# Altium schematic symbol library EMRT MAIN CONTROLLER.SchLib: 42 symbols
Pins are listed as number, name and electrical type; pins without a type are passive.

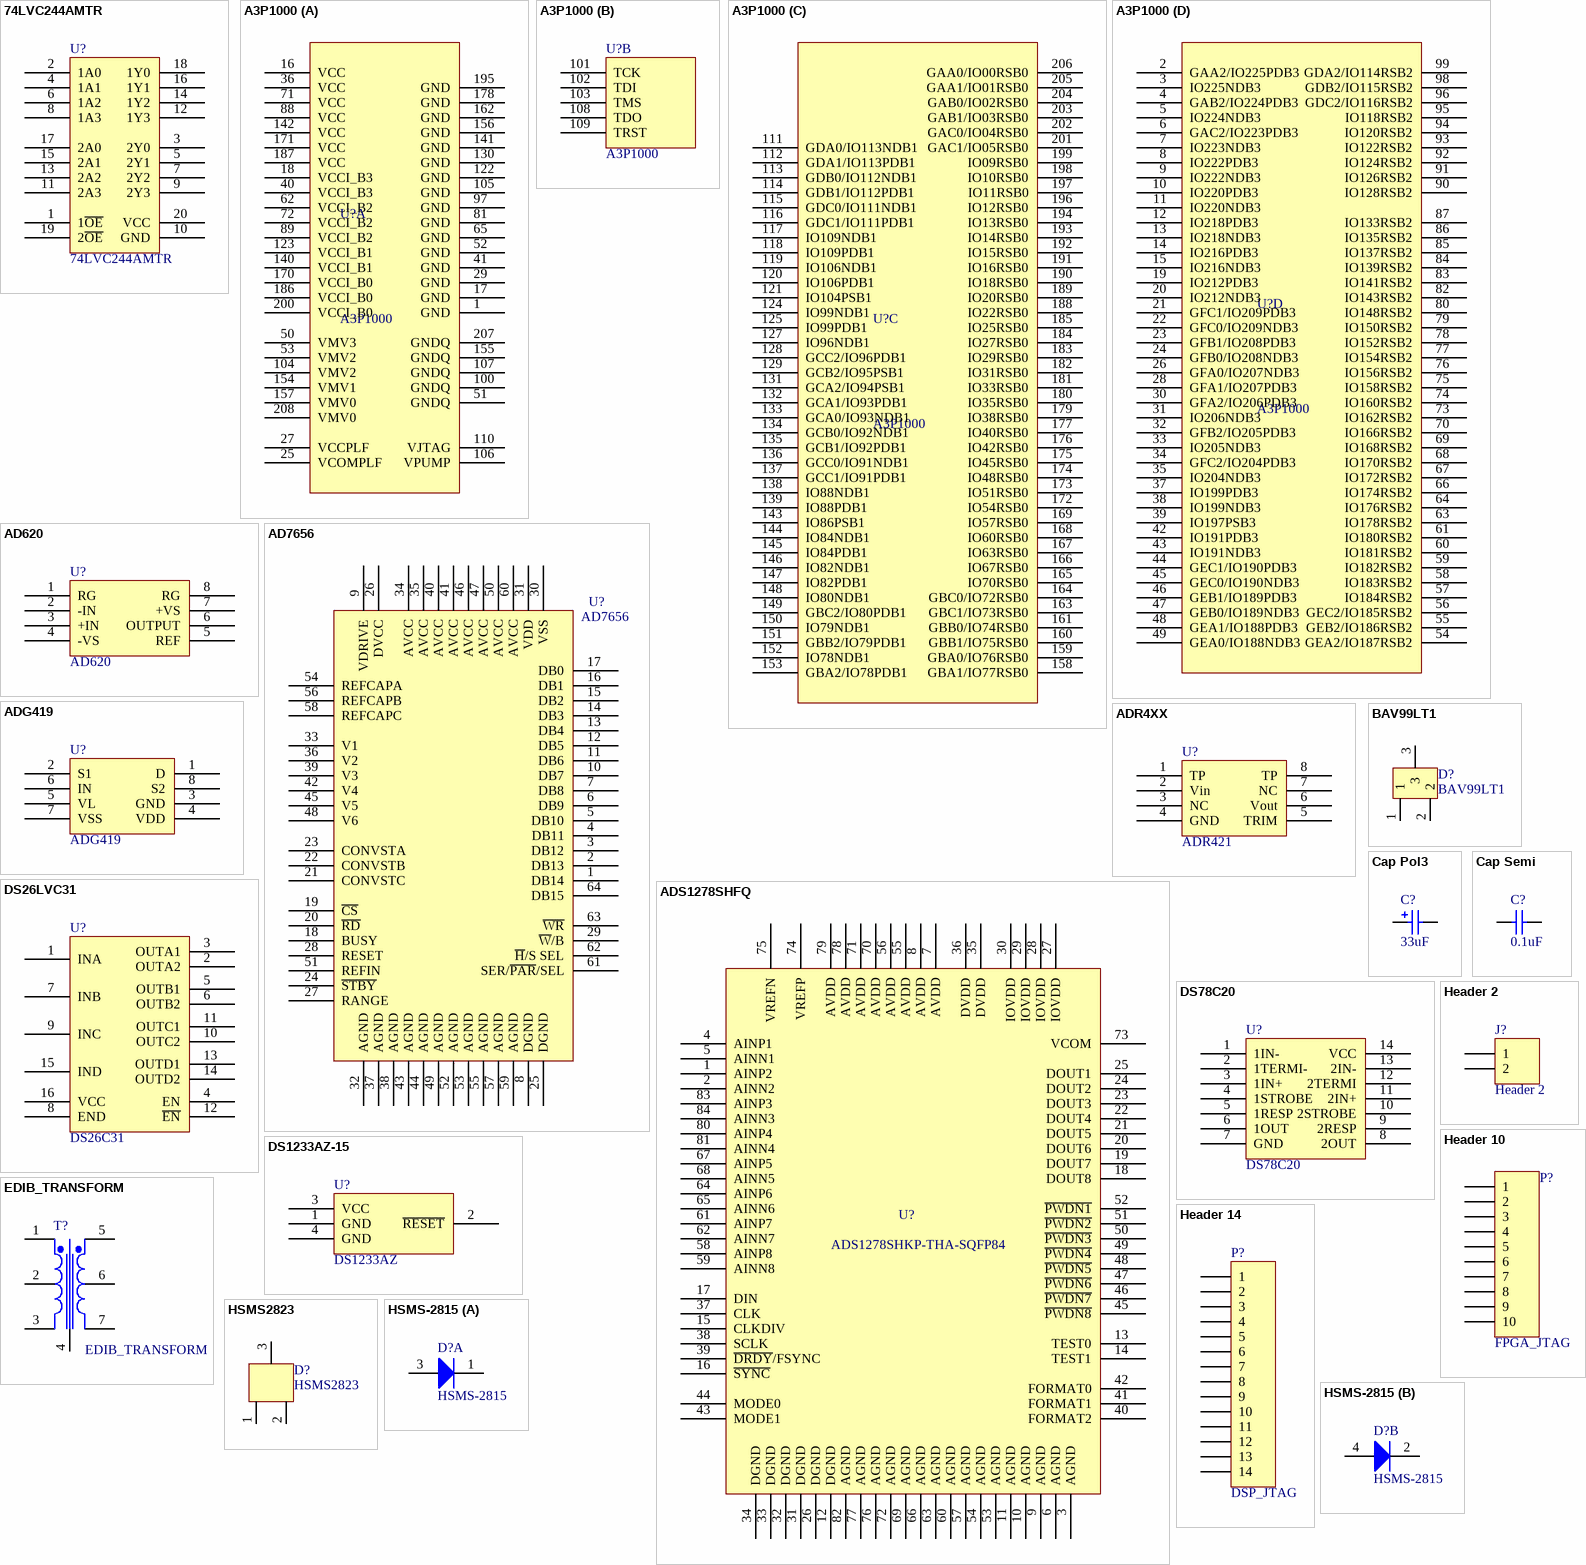
[diagram p0: symbols 74LVC244AMTR to HSMS-2815]

## 74LVC244AMTR
designator U?
footprint SOP20
pins: 1 1~{OE}, 2 1A0, 3 2Y0, 4 1A1, 5 2Y1, 6 1A2, 7 2Y2, 8 1A3, 9 2Y3, 10 GND, 11 2A3, 12 1Y3, 13 2A2, 14 1Y2, 15 2A1, 16 1Y1, 17 2A0, 18 1Y0, 19 2~{OE}, 20 VCC

## A3P1000
designator U?
footprint PQFP208
part A pins: 1 GND, 16 VCC, 17 GND, 18 VCCI_B3, 25 VCOMPLF, 27 VCCPLF, 29 GND, 36 VCC, 40 VCCI_B3, 41 GND, 50 VMV3, 51 GNDQ, 52 GND, 53 VMV2, 62 VCCI_B2, 65 GND, 71 VCC, 72 VCCI_B2, 81 GND, 88 VCC, 89 VCCI_B2, 97 GND, 100 GNDQ, 104 VMV2, 105 GND, 106 VPUMP, 107 GNDQ, 110 VJTAG, 122 GND, 123 VCCI_B1, 130 GND, 140 VCCI_B1, 141 GND, 142 VCC, 154 VMV1, 155 GNDQ, 156 GND, 157 VMV0, 162 GND, 170 VCCI_B0, 171 VCC, 178 GND, 186 VCCI_B0, 187 VCC, 195 GND, 200 VCCI_B0, 207 GNDQ, 208 VMV0
part B pins: 101 TCK, 102 TDI, 103 TMS, 108 TDO, 109 TRST
part C pins: 111 GDA0/IO113NDB1, 112 GDA1/IO113PDB1, 113 GDB0/IO112NDB1, 114 GDB1/IO112PDB1, 115 GDC0/IO111NDB1, 116 GDC1/IO111PDB1, 117 IO109NDB1, 118 IO109PDB1, 119 IO106NDB1, 120 IO106PDB1, 121 IO104PSB1, 124 IO99NDB1, 125 IO99PDB1, 127 IO96NDB1, 128 GCC2/IO96PDB1, 129 GCB2/IO95PSB1, 131 GCA2/IO94PSB1, 132 GCA1/IO93PDB1, 133 GCA0/IO93NDB1, 134 GCB0/IO92NDB1, 135 GCB1/IO92PDB1, 136 GCC0/IO91NDB1, 137 GCC1/IO91PDB1, 138 IO88NDB1, 139 IO88PDB1, 143 IO86PSB1, 144 IO84NDB1, 145 IO84PDB1, 146 IO82NDB1, 147 IO82PDB1, 148 IO80NDB1, 149 GBC2/IO80PDB1, 150 IO79NDB1, 151 GBB2/IO79PDB1, 152 IO78NDB1, 153 GBA2/IO78PDB1, 158 GBA1/IO77RSB0, 159 GBA0/IO76RSB0, 160 GBB1/IO75RSB0, 161 GBB0/IO74RSB0, 163 GBC1/IO73RSB0, 164 GBC0/IO72RSB0, 165 IO70RSB0, 166 IO67RSB0, 167 IO63RSB0, 168 IO60RSB0, 169 IO57RSB0, 172 IO54RSB0, 173 IO51RSB0, 174 IO48RSB0, 175 IO45RSB0, 176 IO42RSB0, 177 IO40RSB0, 179 IO38RSB0, 180 IO35RSB0, 181 IO33RSB0, 182 IO31RSB0, 183 IO29RSB0, 184 IO27RSB0, 185 IO25RSB0, 188 IO22RSB0, 189 IO20RSB0, 190 IO18RSB0, 191 IO16RSB0, 192 IO15RSB0, 193 IO14RSB0, 194 IO13RSB0, 196 IO12RSB0, 197 IO11RSB0, 198 IO10RSB0, 199 IO09RSB0, 201 GAC1/IO05RSB0, 202 GAC0/IO04RSB0, 203 GAB1/IO03RSB0, 204 GAB0/IO02RSB0, 205 GAA1/IO01RSB0, 206 GAA0/IO00RSB0
part D pins: 2 GAA2/IO225PDB3, 3 IO225NDB3, 4 GAB2/IO224PDB3, 5 IO224NDB3, 6 GAC2/IO223PDB3, 7 IO223NDB3, 8 IO222PDB3, 9 IO222NDB3, 10 IO220PDB3, 11 IO220NDB3, 12 IO218PDB3, 13 IO218NDB3, 14 IO216PDB3, 15 IO216NDB3, 19 IO212PDB3, 20 IO212NDB3, 21 GFC1/IO209PDB3, 22 GFC0/IO209NDB3, 23 GFB1/IO208PDB3, 24 GFB0/IO208NDB3, 26 GFA0/IO207NDB3, 28 GFA1/IO207PDB3, 30 GFA2/IO206PDB3, 31 IO206NDB3, 32 GFB2/IO205PDB3, 33 IO205NDB3, 34 GFC2/IO204PDB3, 35 IO204NDB3, 37 IO199PDB3, 38 IO199NDB3, 39 IO197PSB3, 42 IO191PDB3, 43 IO191NDB3, 44 GEC1/IO190PDB3, 45 GEC0/IO190NDB3, 46 GEB1/IO189PDB3, 47 GEB0/IO189NDB3, 48 GEA1/IO188PDB3, 49 GEA0/IO188NDB3, 54 GEA2/IO187RSB2, 55 GEB2/IO186RSB2, 56 GEC2/IO185RSB2, 57 IO184RSB2, 58 IO183RSB2, 59 IO182RSB2, 60 IO181RSB2, 61 IO180RSB2, 63 IO178RSB2, 64 IO176RSB2, 66 IO174RSB2, 67 IO172RSB2, 68 IO170RSB2, 69 IO168RSB2, 70 IO166RSB2, 73 IO162RSB2, 74 IO160RSB2, 75 IO158RSB2, 76 IO156RSB2, 77 IO154RSB2, 78 IO152RSB2, 79 IO150RSB2, 80 IO148RSB2, 82 IO143RSB2, 83 IO141RSB2, 84 IO139RSB2, 85 IO137RSB2, 86 IO135RSB2, 87 IO133RSB2, 90 IO128RSB2, 91 IO126RSB2, 92 IO124RSB2, 93 IO122RSB2, 94 IO120RSB2, 95 IO118RSB2, 96 GDC2/IO116RSB2, 98 GDB2/IO115RSB2, 99 GDA2/IO114RSB2

## AD620
designator U?
footprint DIP8
pins: 1 RG, 2 -IN, 3 +IN, 4 -VS, 5 REF, 6 OUTPUT, 7 +VS, 8 RG

## AD7656
designator U?
footprint LQFP-64
pins: 1 DB14, 2 DB13, 3 DB12, 4 DB11, 5 DB10, 6 DB9, 7 DB8, 8 DGND, 9 VDRIVE, 10 DB7, 11 DB6, 12 DB5, 13 DB4, 14 DB3, 15 DB2, 16 DB1, 17 DB0, 18 BUSY, 19 ~{CS}, 20 ~{RD}, 21 CONVSTC, 22 CONVSTB, 23 CONVSTA, 24 ~{STBY}, 25 DGND, 26 DVCC, 27 RANGE, 28 RESET, 29 ~{W}/B, 30 VSS, 31 VDD, 32 AGND, 33 V1, 34 AVCC, 35 AVCC, 36 V2, 37 AGND, 38 AGND, 39 V3, 40 AVCC, 41 AVCC, 42 V4, 43 AGND, 44 AGND, 45 V5, 46 AVCC, 47 AVCC, 48 V6, 49 AGND, 50 AVCC, 51 REFIN, 52 AGND, 53 AGND, 54 REFCAPA, 55 AGND, 56 REFCAPB, 57 AGND, 58 REFCAPC, 59 AGND, 60 AVCC, 61 SER/~{PAR}/SEL, 62 ~{H}/S SEL, 63 ~{WR}, 64 DB15

## ADG419
designator U?
footprint DIP8
pins: 1 D, 2 S1, 3 GND, 4 VDD, 5 VL, 6 IN, 7 VSS, 8 S2

## ADR4XX
designator U?, comment ADR421
footprint SO-8
pins: 1 TP, 2 Vin, 3 NC, 4 GND, 5 TRIM, 6 Vout, 7 NC, 8 TP

## ADS1278SHFQ
designator U?, comment ADS1278SHKP-THA-SQFP84
footprint HB-CQFP_84q1933×1933×280_p50 - duplicate (SQFP, 84-Leads, Body 13.81x13.81mm, Pitch 0.50mm, Thermal Pad 7.04x7.04mm, IPC Medium Density)
pins: 1 AINP2, 2 AINN2, 3 AGND, 4 AINP1, 5 AINN1, 6 AGND, 7 AVDD, 8 AVDD, 9 AGND, 10 AGND, 11 AGND, 12 DGND, 13 TEST0, 14 TEST1, 15 CLKDIV, 16 ~{SYNC}, 17 DIN, 18 DOUT8, 19 DOUT7, 20 DOUT6, 21 DOUT5, 22 DOUT4, 23 DOUT3, 24 DOUT2, 25 DOUT1, 26 DGND, 27 IOVDD, 28 IOVDD, 29 IOVDD, 30 IOVDD, 31 DGND, 32 DGND, 33 DGND, 34 DGND, 35 DVDD, 36 DVDD, 37 CLK, 38 SCLK, 39 ~{DRDY}/FSYNC, 40 FORMAT2, 41 FORMAT1, 42 FORMAT0, 43 MODE1, 44 MODE0, 45 ~{PWDN8}, 46 ~{PWDN7}, 47 ~{PWDN6}, 48 ~{PWDN5}, 49 ~{PWDN4}, 50 ~{PWDN3}, 51 ~{PWDN2}, 52 ~{PWDN1}, 53 AGND, 54 AGND, 55 AVDD, 56 AVDD, 57 AGND, 58 AINP8, 59 AINN8, 60 AGND, 61 AINP7, 62 AINN7, 63 AGND, 64 AINP6, 65 AINN6, 66 AGND, 67 AINP5, 68 AINN5, 69 AGND, 70 AVDD, 71 AVDD, 72 AGND, 73 VCOM, 74 VREFP, 75 VREFN, 76 AGND, 77 AGND, 78 AVDD, 79 AVDD, 80 AINP4, 81 AINN4, 82 AGND, 83 AINP3, 84 AINN3

## BAV99LT1
designator D?
footprint SOT23-3N (SOT23, 3-Leads, Body 2.9x1.3mm, Pitch 0.95mm, Lead Span 2.5mm, IPC Medium Density)
pins: 1, 2, 3

## Cap Pol3
designator C?  value 33uF  (hidden comment: Cap Pol3)
Polarized Capacitor (Surface Mount); Manufacturer: Generic Components; Class: Passive; Published: 08/06/2000; Publisher: Altium Hobart Technology Centre; SubClass: Capacitor; Comment_1: Cap Pol3
simulation model CAP (Capacitor)
signal-integrity model Cap Pol
footprint 1206
pins: 1, 2

## Cap Semi
designator C?  value 0.1uF  (hidden comment: Cap Semi)
Capacitor (Semiconductor SIM Model); Manufacturer: Generic Components; Class: Passive; Published: 08/06/2000; Publisher: Altium Hobart Technology Centre; SubClass: Capacitor
simulation model CAP (Semiconductor Capacitor)
signal-integrity model Cap Semi
footprint 0805
pins: 1, 2

## DS26LVC31
designator U?, comment DS26C31
footprint DIP16
pins: 1 INA, 2 OUTA2, 3 OUTA1, 4 EN, 5 OUTB1, 6 OUTB2, 7 INB, 8 END, 9 INC, 10 OUTC2, 11 OUTC1, 12 ~{EN}, 13 OUTD1, 14 OUTD2, 15 IND, 16 VCC

## DS78C20
designator U?
footprint DIP14
pins: 1 1IN-, 2 1TERMI-, 3 1IN+, 4 1STROBE, 5 1RESP, 6 1OUT, 7 GND, 8 2OUT, 9 2RESP, 10 2STROBE, 11 2IN+, 12 2TERMI, 13 2IN-, 14 VCC

## DS1233AZ-15
designator U?, comment DS1233AZ
footprint SOT-223 (SOT-223/SC-73; 4 Leads; Body 6.7 x 7.3 mm, inc. leads (LxW max))
pins: 1 GND, 2 ~{RESET}, 3 VCC, 4 GND

## EDIB_TRANSFORM
designator T?
footprint TRANSFORM
pins: 1 Pri+, 2, 3 Pri-, 4, 5 Sec-, 6 SecCT, 7 Sec+

## Header 2
designator J?
Header, 2-Pin; LatestRevisionDate: 17-Jul-2002; LatestRevisionNote: Re-released for DXP Platform.; Publisher: Altium Limited
footprint HDR1X2 (Connector; Header; 2 Position)
signal-integrity model Connector
pins: 1, 2

## Header 10
designator P?, comment FPGA_JTAG
Header, 10-Pin; LatestRevisionDate: 17-Jul-2002; LatestRevisionNote: Re-released for DXP Platform.; Publisher: Altium Limited
footprint HDR2X5 (Connector; Header; 5x2 Position)
signal-integrity model Connector
pins: 1, 2, 3, 4, 5, 6, 7, 8, 9, 10

## Header 14
designator P?, comment DSP_JTAG
Header, 14-Pin; LatestRevisionDate: 17-Jul-2002; LatestRevisionNote: Re-released for DXP Platform.; Publisher: Altium Limited
footprint HDR2X7
signal-integrity model Connector
pins: 1, 2, 3, 4, 5, 6, 7, 8, 9, 10, 11, 12, 13, 14

## HSMS2823
designator D?
footprint SOT-23
pins: 1, 2, 3

## HSMS-2815
designator D?
footprint HMIS_2815_SOT143
part A pins: 1, 3
part B pins: 2, 4

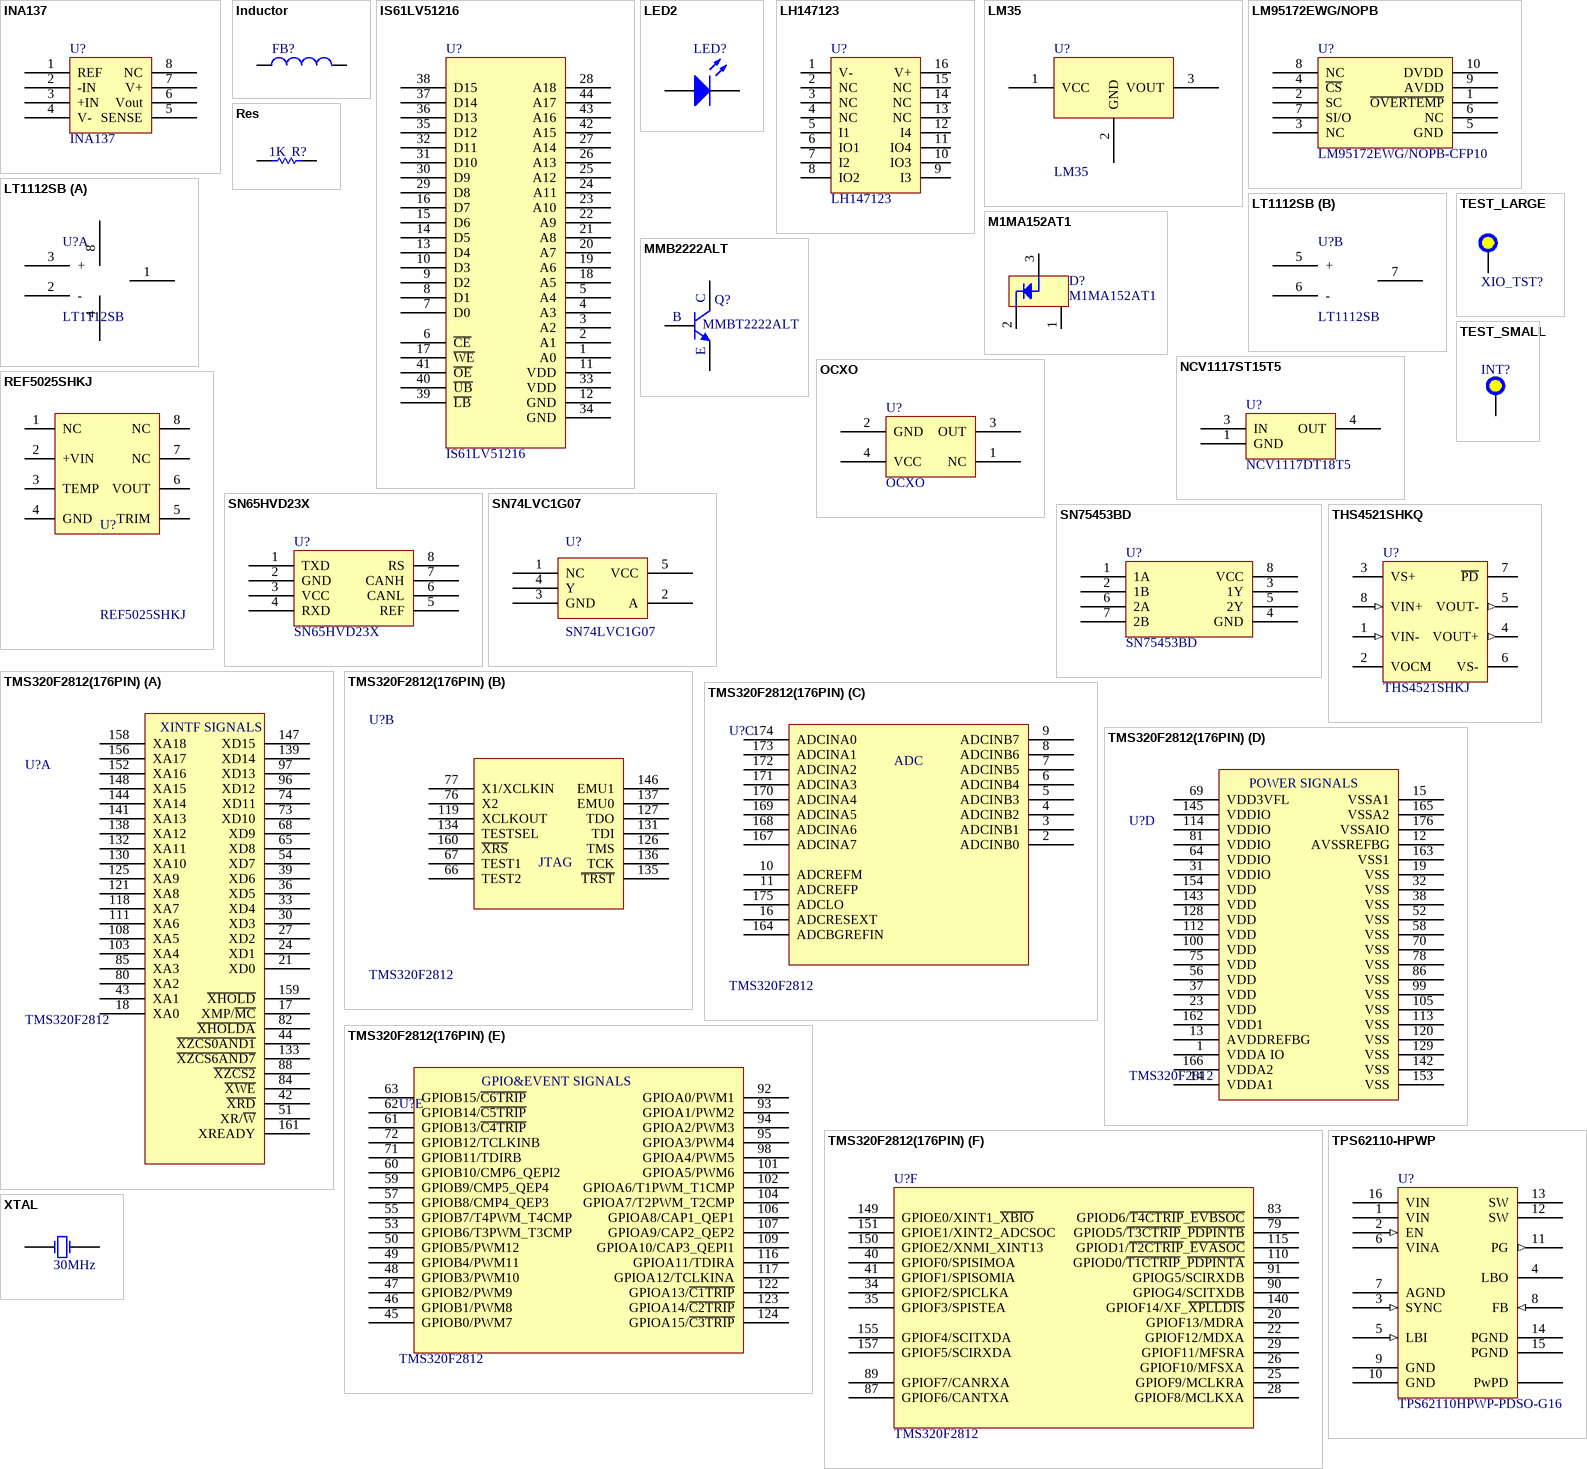
[diagram p1: symbols INA137 to XTAL]

## INA137
designator U?
footprint SO-8
pins: 1 REF, 2 -IN, 3 +IN, 4 V-, 5 SENSE, 6 Vout, 7 V+, 8 NC

## Inductor
designator FB?  (value not drawn)
Manufacturer: Generic Components; Class: Passive; Published: 08/06/2000; Publisher: Altium Hobart Technology Centre; SubClass: Inductor
simulation model INDUCTOR (Inductor)
signal-integrity model Inductor
footprint AXIAL0.5
pins: 1, 2

## IS61LV51216
designator U?
footprint TSOP44
pins: 1 A0, 2 A1, 3 A2, 4 A3, 5 A4, 6 ~{CE}, 7 D0, 8 D1, 9 D2, 10 D3, 11 VDD, 12 GND, 13 D4, 14 D5, 15 D6, 16 D7, 17 ~{WE}, 18 A5, 19 A6, 20 A7, 21 A8, 22 A9, 23 A10, 24 A11, 25 A12, 26 A13, 27 A14, 28 A18, 29 D8, 30 D9, 31 D10, 32 D11, 33 VDD, 34 GND, 35 D12, 36 D13, 37 D14, 38 D15, 39 ~{LB}, 40 ~{UB}, 41 ~{OE}, 42 A15, 43 A16, 44 A17

## LED2
designator LED?
Typical RED, GREEN, YELLOW, AMBER GaAs LED; Published: 8-Jun-2000; LatestRevisionDate: 17-Jul-2002; LatestRevisionNote: Re-released for DXP Platform.; PackageDocument: Feb-2002; PackageReference: 3.2X1.6X1.1; Publisher: Altium Limited
footprint LED0805
simulation model LED2 (Diode)
pins: 1 A, 2 K

## LH147123
designator U?
Part Number: Y20033461; parent: 13; 描述: 青岛智腾;LH147123;210℃;DIP 16PINS;核磁定制; 安装形式: THT; 引脚数目: 16; 产品外形尺寸<长>: 21.6mm; 产品外形尺寸<宽>: 15mm; 产品外形尺寸<高>: 3.68mm; 主要参数: 210℃恒流源模块; id: wt.part.WTPartMaster:10856501; state: APPROVED; folder: /Default/电源及电源管理/LH147123; 制造商型号: LH147123; HelpURL: \\10.185.226.160\altium_center_db\DATASHEET\lh147123.pdf; Library Path: LH147123.SchLib; Library Ref: LH147123; pname: LH147123
footprint DIP16 - LH147123
pins: 1 V-, 2 NC, 3 NC, 4 NC, 5 I1, 6 IO1, 7 I2, 8 IO2, 9 I3, 10 IO3, 11 IO4, 12 I4, 13 NC, 14 NC, 15 NC, 16 V+

## LM35
designator U?
footprint TO-46
pins: 1 VCC, 2 GND, 3 VOUT

## LM95172EWG/NOPB
designator U?, comment LM95172EWG/NOPB-CFP10
pins: 1 ~{OVERTEMP}, 2 SC, 3 NC, 4 ~{CS}, 5 GND, 6 NC, 7 SI/O, 8 NC, 9 AVDD (power), 10 DVDD (power)

## LT1112SB
designator U?
footprint SO-8
part A pins: 1, 2 -, 3 +, 4, 8
part B pins: 5 +, 6 -, 7

## M1MA152AT1
designator D?
footprint SC-59
pins: 1, 2, 3

## MMB2222ALT
designator Q?, comment MMBT2222ALT
footprint SOT-23
pins: 1 B, 2 E, 3 C

## NCV1117ST15T5
designator U?, comment NCV1117DT18T5
footprint NCV_NCP1117
pins: 1 GND, 3 IN, 4 OUT

## OCXO
designator U?
footprint OCXO
pins: 1 NC, 2 GND, 3 OUT, 4 VCC

## REF5025SHKJ
designator U?
footprint PDSO_8q600×490×175_p127
pins: 1 NC, 2 +VIN, 3 TEMP, 4 GND, 5 TRIM, 6 VOUT, 7 NC, 8 NC

## Res
designator R?  value 1K  (hidden comment: Res)
Semiconductor Resistor; Manufacturer: Generic Components; Class: Passive; Published: 08/06/2000; Publisher: Altium Hobart Technology Centre; SubClass: Resistor
simulation model RES (Semiconductor Resistor)
signal-integrity model Res Semi
footprint RESS0805
pins: 1, 2

## SN65HVD23X
designator U?
footprint SO-8
pins: 1 TXD, 2 GND, 3 VCC, 4 RXD, 5 REF, 6 CANL, 7 CANH, 8 RS

## SN74LVC1G07
designator U?
footprint DBVR-5
pins: 1 NC, 2 A, 3 GND, 4 Y, 5 VCC

## SN75453BD
designator U?
footprint DIP8
pins: 1 1A, 2 1B, 3 1Y, 4 GND, 5 2Y, 6 2A, 7 2B, 8 VCC

## TEST_LARGE
designator XIO_TST?, comment TST_LARGE  (value not drawn)
footprint test_large
pins: 1

## TEST_SMALL
designator INT?  (value not drawn)
footprint test_small
pins: 1

## THS4521SHKQ
designator U?, comment THS4521SHKJ
Part Number: Y20033402; parent: 13; 制造商型号: THS4521SHKQ; 描述: TI;THS4521SHKQ;210℃;CDFP 8PINS; 安装形式: SMT; 引脚数目: 8; 产品外形尺寸<长>: 11.08mm; 产品外形尺寸<宽>: 7.15mm; 产品外形尺寸<高>: 2.8mm; 主要参数: 高温、极低功耗、负轨输入、轨至轨输出、差动放大器; id: wt.part.WTPartMaster:10348764; state: APPROVED; folder: /Default/模拟IC/THS4521SHKQ; 分类: 模拟IC; HelpURL: \\10.185.226.160\altium_center_db\DATASHEET\TI THS4521-HT.pdf; Library Path: THS4521S.SchLib; Library Ref: THS4521SHKQ; Footprint Path: TI THS4521SHKQ.PcbLib; Footprint Ref: PDSO_8q1098×690×280_p127; pname: THS4521SHKQ
footprint THS4521HKJ
pins: 1 VIN- (in), 2 VOCM, 3 VS+, 4 VOUT+ (out), 5 VOUT- (out), 6 VS-, 7 ~{PD}, 8 VIN+ (in)

## TMS320F2812(176PIN)
designator U?, comment TMS320F2812
footprint QFP176
part A pins: 17 XMP/~{MC}, 18 XA0, 21 XD0, 24 XD1, 27 XD2, 30 XD3, 33 XD4, 36 XD5, 39 XD6, 42 ~{XRD}, 43 XA1, 44 ~{XZCS0AND1}, 51 XR/~{W}, 54 XD7, 65 XD8, 68 XD9, 73 XD10, 74 XD11, 80 XA2, 82 ~{XHOLDA}, 84 ~{XWE}, 85 XA3, 88 ~{XZCS2}, 96 XD12, 97 XD13, 103 XA4, 108 XA5, 111 XA6, 118 XA7, 121 XA8, 125 XA9, 130 XA10, 132 XA11, 133 ~{XZCS6AND7}, 138 XA12, 139 XD14, 141 XA13, 144 XA14, 147 XD15, 148 XA15, 152 XA16, 156 XA17, 158 XA18, 159 ~{XHOLD}, 161 XREADY
part B pins: 66 TEST2, 67 TEST1, 76 X2, 77 X1/XCLKIN, 119 XCLKOUT, 126 TMS, 127 TDO, 131 TDI, 134 TESTSEL, 135 ~{TRST}, 136 TCK, 137 EMU0, 146 EMU1, 160 ~{XRS}
part C pins: 2 ADCINB0, 3 ADCINB1, 4 ADCINB2, 5 ADCINB3, 6 ADCINB4, 7 ADCINB5, 8 ADCINB6, 9 ADCINB7, 10 ADCREFM, 11 ADCREFP, 16 ADCRESEXT, 164 ADCBGREFIN, 167 ADCINA7, 168 ADCINA6, 169 ADCINA5, 170 ADCINA4, 171 ADCINA3, 172 ADCINA2, 173 ADCINA1, 174 ADCINA0, 175 ADCLO
part D pins: 1 VDDA IO (power), 12 AVSSREFBG, 13 AVDDREFBG, 14 VDDA1, 15 VSSA1, 19 VSS, 23 VDD, 31 VDDIO, 32 VSS, 37 VDD, 38 VSS, 52 VSS, 56 VDD, 58 VSS, 64 VDDIO, 69 VDD3VFL, 70 VSS, 75 VDD, 78 VSS, 81 VDDIO, 86 VSS, 99 VSS, 100 VDD, 105 VSS, 112 VDD, 113 VSS, 114 VDDIO, 120 VSS, 128 VDD, 129 VSS, 142 VSS, 143 VDD, 145 VDDIO, 153 VSS, 154 VDD, 162 VDD1, 163 VSS1, 165 VSSA2, 166 VDDA2, 176 VSSAIO
part E pins: 45 GPIOB0/PWM7, 46 GPIOB1/PWM8, 47 GPIOB2/PWM9, 48 GPIOB3/PWM10, 49 GPIOB4/PWM11, 50 GPIOB5/PWM12, 53 GPIOB6/T3PWM_T3CMP, 55 GPIOB7/T4PWM_T4CMP, 57 GPIOB8/CMP4_QEP3, 59 GPIOB9/CMP5_QEP4, 60 GPIOB10/CMP6_QEPI2, 61 GPIOB13/~{C4TRIP}, 62 GPIOB14/~{C5TRIP}, 63 GPIOB15/~{C6TRIP}, 71 GPIOB11/TDIRB, 72 GPIOB12/TCLKINB, 92 GPIOA0/PWM1, 93 GPIOA1/PWM2, 94 GPIOA2/PWM3, 95 GPIOA3/PWM4, 98 GPIOA4/PWM5, 101 GPIOA5/PWM6, 102 GPIOA6/T1PWM_T1CMP, 104 GPIOA7/T2PWM_T2CMP, 106 GPIOA8/CAP1_QEP1, 107 GPIOA9/CAP2_QEP2, 109 GPIOA10/CAP3_QEPI1, 116 GPIOA11/TDIRA, 117 GPIOA12/TCLKINA, 122 GPIOA13/~{C1TRIP}, 123 GPIOA14/~{C2TRIP}, 124 GPIOA15/~{C3TRIP}
part F pins: 20 GPIOF13/MDRA, 22 GPIOF12/MDXA, 25 GPIOF9/MCLKRA, 26 GPIOF10/MFSXA, 28 GPIOF8/MCLKXA, 29 GPIOF11/MFSRA, 34 GPIOF2/SPICLKA, 35 GPIOF3/SPISTEA, 40 GPIOF0/SPISIMOA, 41 GPIOF1/SPISOMIA, 79 GPIOD5/~{T3CTRIP}_~{PDPINTB}, 83 GPIOD6/~{T4CTRIP}_~{EVBSOC}, 87 GPIOF6/CANTXA, 89 GPIOF7/CANRXA, 90 GPIOG4/SCITXDB, 91 GPIOG5/SCIRXDB, 110 GPIOD0/~{T1CTRIP}_~{PDPINTA}, 115 GPIOD1/~{T2CTRIP}_~{EVASOC}, 140 GPIOF14/XF_~{XPLLDIS}, 149 GPIOE0/XINT1_~{XBIO}, 150 GPIOE2/XNMI_XINT13, 151 GPIOE1/XINT2_ADCSOC, 155 GPIOF4/SCITXDA, 157 GPIOF5/SCIRXDA
part A text: XINTF SIGNALS
part B text: JTAG
part C text: ADC
part D text: POWER SIGNALS
part E text: GPIO&EVENT SIGNALS

## TPS62110-HPWP
designator U?, comment TPS62110HPWP-PDSO-G16
Part Number: Y20033002; 安装形式: SMT; 产品外形尺寸<高>: 1.2mm; 产品外形尺寸<长>: 6.6mm; 产品外形尺寸<宽>: 5.1mm; 引脚数目: 16; 湿敏等级（回流焊峰值）: MSL2(260C); 描述: TI;TPS62110-HPWP;175℃;HTSSOP 16PINS;MSL2(260C); id: wt.part.WTPartMaster:8901760; folder: /Default/电源及电源管理/TPS62110HPWP; 主要参数: 17-V, 1.5-A, SYNCHRONOUS STEP-DOWN CONVERTER; 制造商型号: TPS62110-HPWP; state: APPROVED; parent: 13; Library Path 2: 0; Library Ref: TPS62110-HPWP; Footprint Path: 0; HelpURL: \\10.185.226.160\altium_center_db\DATASHEET\TI TPS62110-HT.pdf; Footprint Ref: 0; Library Path: TPS62110-HT.SchLib; pname: TPS62110-HPWP; Library Ref 2: 0; Footprint Path 2: 0; Footprint Ref 2: 0; Footprint Path 3: 0; Footprint Ref 3: 0
footprint PWP16
footprint 0
pins: 1 VIN (power), 2 EN (in), 3 SYNC (in), 4 LBO, 5 LBI (in), 6 VINA (power), 7 AGND (power), 8 FB (in), 9 GND, 10 GND, 11 PG (out), 12 SW, 13 SW, 14 PGND, 15 PGND, 16 VIN (power), PwPD

## XTAL
designator Y?  (value not drawn)
Crystal Oscillator; Published: 8-Jun-2000; LatestRevisionDate: 17-Jul-2002; LatestRevisionNote: Re-released for DXP Platform.; Publisher: Altium Limited
footprint XTAL1
simulation model XTAL (Spice Subcircuit)
pins: 1 OSC1, 2 OSC2
text: 30MHz